# EAGLE library part K155ID1 (library FHD-RETRO)
BCD -> Nixie Driver IC. Equivelant to SN74141
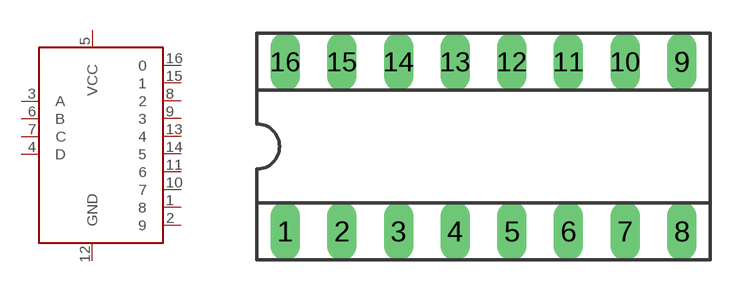
[diagram p6: symbol with the pads of SOCKET-16; footprint SOCKET-16]

Designator prefix -

## K155ID1  [SOCKET-16]
1  8
2  9
3  A
4  D
5  VCC
6  B
7  C
8  2
9  3
10  7
11  6
12  GND
13  4
14  5
15  1
16  0

## Footprint SOCKET-16 (pad centres in mm)
Dual In Line Socket
drill 0.813 long: 1 -8.89,-3.81; 2 -6.35,-3.81; 3 -3.81,-3.81; 4 -1.27,-3.81; 5 1.27,-3.81; 6 3.81,-3.81; 7 6.35,-3.81; 8 8.89,-3.81; 9 8.89,3.81; 10 6.35,3.81; 11 3.81,3.81; 12 1.27,3.81; 13 -1.27,3.81; 14 -3.81,3.81; 15 -6.35,3.81; 16 -8.89,3.81